# Altium footprint library LIB_MVMC.PcbLib: 49 footprints (part 2 of 4)
Each footprint in its own frame and in the unit in brackets; x right, y up, seen from the top. Pads: shape width x height; smd on the part's side, far side on the other; paste and mask are expansions set on the pad; w line width, h text height; cw(c..) or ccw(c..) is an arc to the next point about the centre after c.
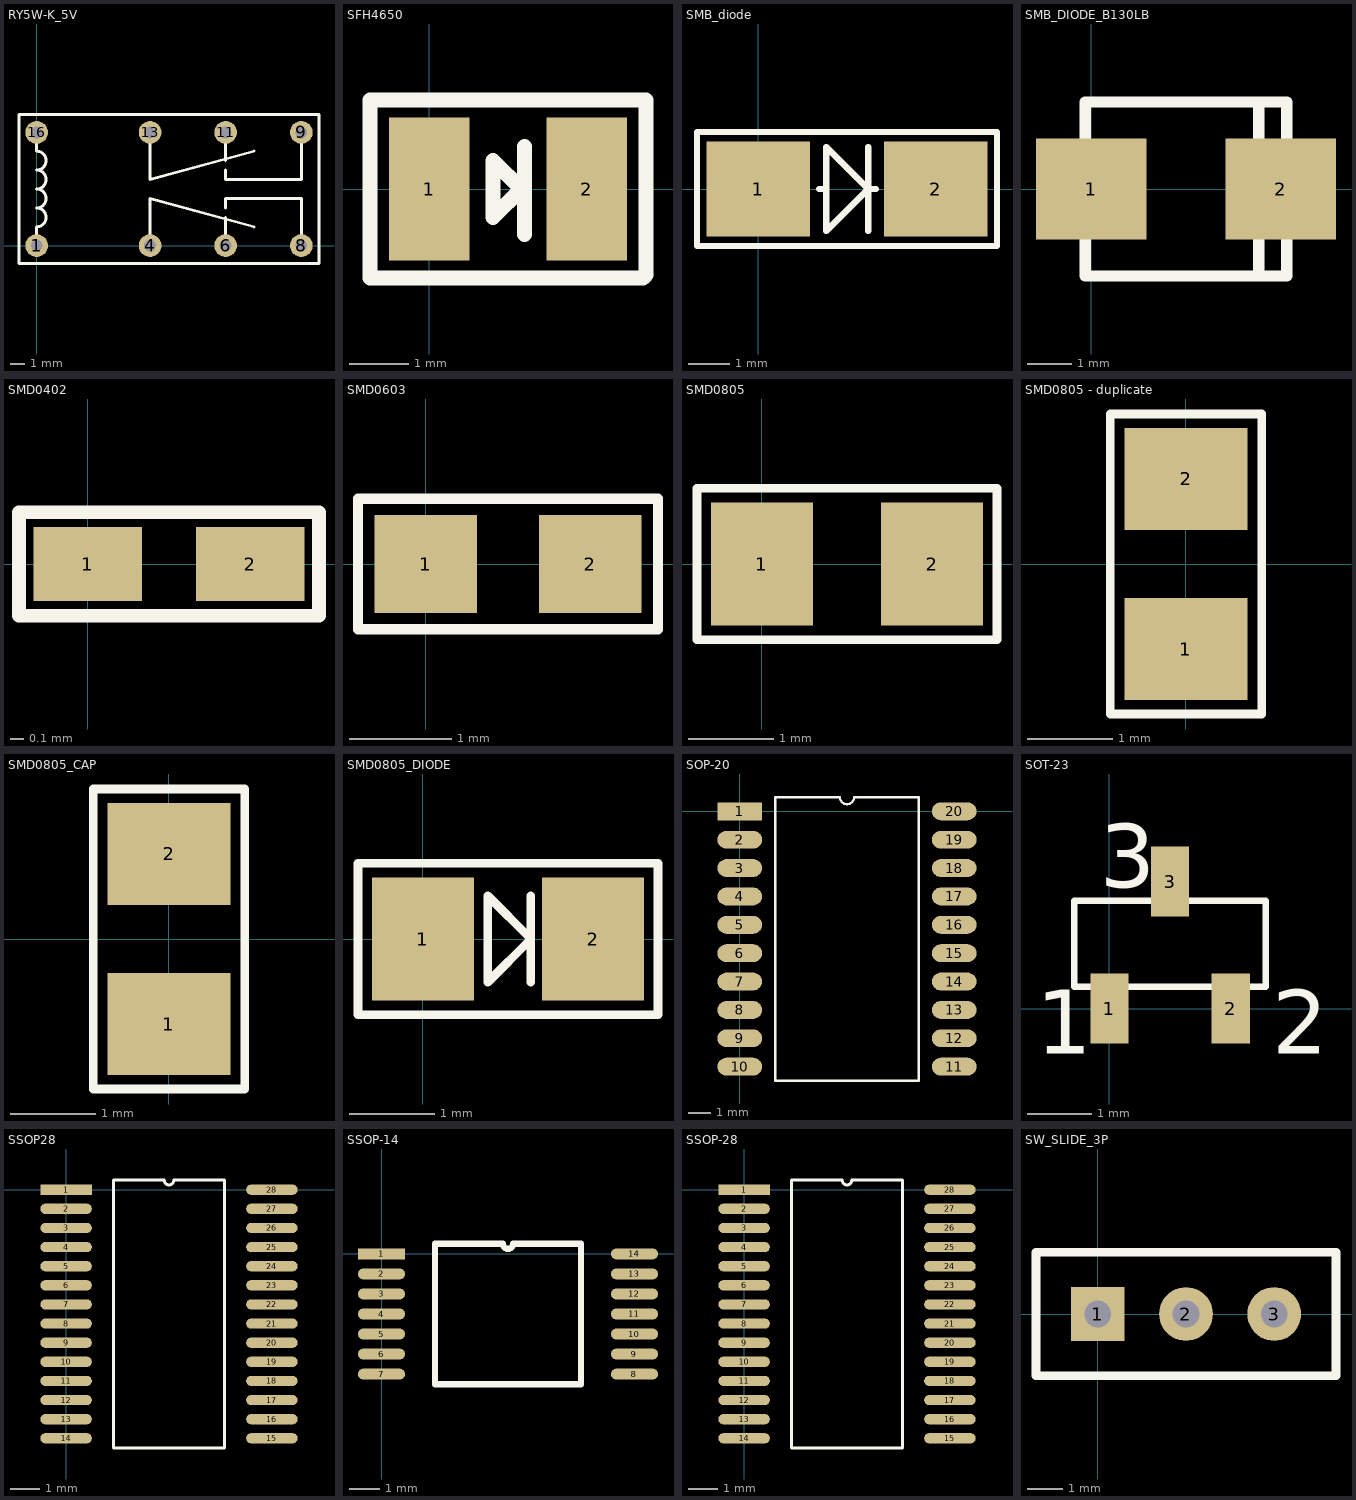
[diagram p1: the footprints below, top view; thin cyan lines are the x and y axes]

## RY5W-K_5V [mil]
pads (8):
  round 60 hole 31.5: 1(0,0) 4(300,0) 6(500,0) 8(700,0) 9(700,300) 11(500,300) 13(300,300) 16(0,300)
Top Overlay:
  lines w7.87: 0,0 0,50 ccw(c0,75) 25,75 ccw(c0,75) 0,100 ccw(c0,125) 25,125 ccw(c0,125) 0,150 ccw(c0,175) 25,175 ccw(c0,175) 0,200 ccw(c0,225) 25,225 ccw(c0,225) 0,250 0,300 ; 300,0 300,125 575,50 ; 300,300 300,175 575,250 ; 500,0 500,75 ; 500,100 500,125 700,125 700,0 ; 500,200 500,175 700,175 700,300 ; 500,225 500,300 ; -46.85,-46.85 -46.85,346.85 746.85,346.85 746.85,-46.85 -46.85,-46.85

## SFH4650 [mm]
pads (2):
  rect 1.35x2.4 smd: 1(0,0) 2(2.65,0)
Top Overlay:
  lines w0.254: 1.6,-0.769 1.6,0.719 ; -1,-1.5 3.6,-1.5 3.65,-1.45 3.65,1.5 -1,1.5 -1,-1.5 ; 1.075,-0.475 1.075,0.475 1.55,0 1.075,-0.475

## SMB_diode [mm]
pads (2):
  rect 2.5x2.3 smd: 1(0,0) 2(4.3,0)
Top Overlay:
  lines w0.152: 1.475,0 1.65,0 ; 2.666,-1.016 2.666,1.016 ; 2.85,0 2.666,0 ; 2.666,0 1.65,-1.016 1.65,1.016 2.666,0 ; -1.475,-1.375 -1.475,1.375 5.775,1.375 5.775,-1.375 -1.475,-1.375

## SMB_DIODE_B130LB [mm]
pads (2):
  rect 2.5x2.3 smd: 1(0,0) 2(4.3,0)
Top Overlay:
  lines w0.254: 3.8,-1.97 3.8,1.97 ; -0.135,-1.97 4.435,-1.97 4.435,1.97 -0.135,1.97 -0.135,-1.97
3D body "MURS160T3G.stp": height 2.47, standoff 0, extent -0.537,-1.825 4.868,1.8

## SMD0402 [mm]
pads (2):
  rect 0.8x0.55 smd: 1(0,0) 2(1.2,0)
Top Overlay:
  lines w0.1: -0.508,-0.381 -0.508,0.381 1.708,0.381 1.708,-0.381 -0.508,-0.381

## SMD0603 [mm]
pads (2):
  rect 1x0.95 smd: 1(0,0) 2(1.6,0)
Top Overlay:
  lines w0.1: -0.66,-0.635 -0.66,0.635 2.26,0.635 2.26,-0.635 -0.66,-0.635
3D body "AMK107BBJ476MA-RE.stp": height 1, standoff 0, extent -0.05,-0.45 1.65,0.45

## SMD0805 [mm]
pads (2):
  rect 1.2x1.45 smd: 1(0,0) 2(2,0)
Top Overlay:
  lines w0.1: -0.762,-0.889 -0.762,0.889 2.762,0.889 2.762,-0.889 -0.762,-0.889
3D body "RESC-0805.stp": height 0.6, standoff 0, extent -0.038,-0.679 2.062,0.671

## SMD0805 - duplicate [mm]
pads (2):
  rect 1.45x1.2 smd: 1(0,-1) 2(0,1)
Top Overlay:
  lines w0.1: -0.889,-1.762 -0.889,1.762 0.889,1.762 0.889,-1.762 -0.889,-1.762
3D body "RES0805.stp": height 0.5, standoff 0, extent -0.62,-1 0.63,1

## SMD0805_CAP [mm]
pads (2):
  rect 1.45x1.2 smd: 1(0,-1) 2(0,1)
Top Overlay:
  lines w0.1: -0.889,-1.762 0.889,-1.762 0.889,1.762 -0.889,1.762 -0.889,-1.762
3D body "User Library-C0805-2.step": height 0.8, standoff 0, extent -0.615,-1 0.635,1

## SMD0805_DIODE [mm]
pads (2):
  rect 1.2x1.45 smd: 1(0,0) 2(2,0)
Top Overlay:
  lines w0.1: 1.27,-0.508 1.27,0.508 ; -0.762,-0.889 -0.762,0.889 2.762,0.889 2.762,-0.889 -0.762,-0.889 ; 0.762,-0.508 0.762,0.508 1.27,0 0.762,-0.508

## SOP-20 [mm]
pads (20):
  rect 2x0.8 smd: 1(0,0)
  oval 2x0.8 smd: 2(0,-1.27) 3(0,-2.54) 4(0,-3.81) 5(0,-5.08) 6(0,-6.35) 7(0,-7.62) 8(0,-8.89) 9(0,-10.16) 10(0,-11.43) 11(9.6,-11.43) 12(9.6,-10.16) 13(9.6,-8.89) 14(9.6,-7.62) 15(9.6,-6.35) 16(9.6,-5.08) 17(9.6,-3.81) 18(9.6,-2.54) 19(9.6,-1.27) 20(9.6,0)
Top Overlay:
  lines w0.1: 1.585,-12.065 1.585,0.635 4.483,0.635 ccw(c4.8,0.635) 5.118,0.635 8.015,0.635 8.015,-12.065 1.585,-12.065

## SOT-23 [mm]
pads (3):
  rect 0.6x1.1 smd: 1(0,0) 2(1.9,0) 3(0.95,1.99)
Top Overlay:
  lines w0.1: -0.55,0.34 -0.55,1.69 2.45,1.69 2.45,0.34 -0.55,0.34
  text "1" at -1.15,-0.71 h1
  text "2" at 2.55,-0.71 h1
  text "3" at -0.15,1.89 h1

## SSOP28 [mm]
pads (28):
  rect 1.75x0.35 smd: 1(0,0)
  oval 1.75x0.35 smd: 2(0,-0.65) 3(0,-1.3) 4(0,-1.95) 5(0,-2.6) 6(0,-3.25) 7(0,-3.9) 8(0,-4.55) 9(0,-5.2) 10(0,-5.85) 11(0,-6.5) 12(0,-7.15) 13(0,-7.8) 14(0,-8.45) 15(7,-8.45) 16(7,-7.8) 17(7,-7.15) 18(7,-6.5) 19(7,-5.85) 20(7,-5.2) 21(7,-4.55) 22(7,-3.9) 23(7,-3.25) 24(7,-2.6) 25(7,-1.95) 26(7,-1.3) 27(7,-0.65) 28(7,0)
Top Overlay:
  lines w0.1: 1.61,-8.775 1.61,0.325 3.338,0.325 ccw(c3.5,0.325) 3.662,0.325 5.39,0.325 5.39,-8.775 1.61,-8.775

## SSOP-14 [mil]
pads (14):
  rect 60x14 smd: 1(0,0)
  oval 60x14 smd: 2(0,-25.59) 3(0,-51.18) 4(0,-76.77) 5(0,-102.36) 6(0,-127.95) 7(0,-153.54) 8(322.83,-153.54) 9(322.83,-127.95) 10(322.83,-102.36) 11(322.83,-76.77) 12(322.83,-51.18) 13(322.83,-25.59) 14(322.83,0)
Top Overlay:
  lines w7.87: 68.31,-166.34 254.53,-166.34 254.53,12.8 167.81,12.8 cw(c161.42,12.8) 155.02,12.8 68.31,12.8 68.31,-166.34

## SSOP-28 [mm]
pads (28):
  rect 1.75x0.35 smd: 1(0,0)
  oval 1.75x0.35 smd: 2(0,-0.65) 3(0,-1.3) 4(0,-1.95) 5(0,-2.6) 6(0,-3.25) 7(0,-3.9) 8(0,-4.55) 9(0,-5.2) 10(0,-5.85) 11(0,-6.5) 12(0,-7.15) 13(0,-7.8) 14(0,-8.45) 15(7,-8.45) 16(7,-7.8) 17(7,-7.15) 18(7,-6.5) 19(7,-5.85) 20(7,-5.2) 21(7,-4.55) 22(7,-3.9) 23(7,-3.25) 24(7,-2.6) 25(7,-1.95) 26(7,-1.3) 27(7,-0.65) 28(7,0)
Top Overlay:
  lines w0.1: 1.61,-8.775 1.61,0.325 3.338,0.325 ccw(c3.5,0.325) 3.662,0.325 5.39,0.325 5.39,-8.775 1.61,-8.775

## SW_SLIDE_3P [mil]
pads (3):
  rect 60x60 hole 30: 1(0,0)
  round 60 hole 30: 2(98.43,0) 3(196.85,0)
Top Overlay:
  lines w10: -68.9,-68.9 -68.9,68.9 265.75,68.9 265.75,-68.9 -68.9,-68.9